# EAGLE library part LNK304 (library comp_wirelessnode)
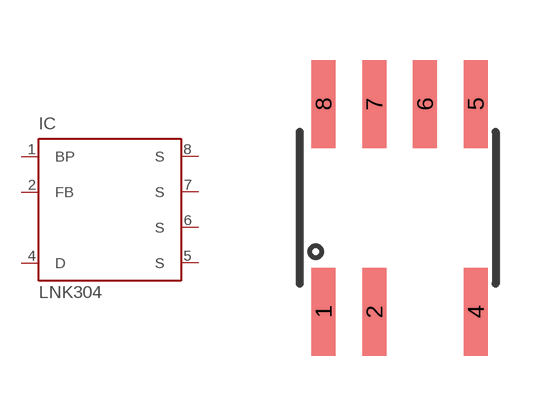
[diagram p6: symbol with the pads of SO8_NO_PIN3; footprint SO8_NO_PIN3]

Designator prefix IC

## LNK304  [SO8_NO_PIN3]
1  BP  pwr
2  FB  in
4  D  pwr
5  S  pwr
6  S  pwr
7  S  pwr
8  S  pwr

## Footprint SO8_NO_PIN3 (pad centres in mm)
smd 0.6 x 2.2: 1 -1.905,-2.6; 2 -0.635,-2.6; 4 1.905,-2.6; 5 1.905,2.6; 6 0.635,2.6; 7 -0.635,2.6; 8 -1.905,2.6